# Altium schematic symbol library ECS-2520MV-250-BN-TR.SchLib: 1 symbol
Pins are listed as number, name and electrical type; pins without a type are passive.

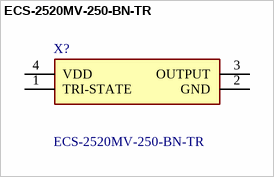
[diagram p0: symbol ECS-2520MV-250-BN-TR]

## ECS-2520MV-250-BN-TR
designator X?
Standard Clock Oscillators 25MHz 1.6-3.6V -40C +85C; Manufacturer_Name: ECS; Geometry.Height: 0.9mm; Manufacturer_Part_Number: ECS-2520MV-250-BN-TR; Mouser Part Number: 520-2520MV-250-BN-T; Mouser Price/Stock: https://www.mouser.co.uk/ProductDetail/ECS/ECS-2520MV-250-BN-TR?qs=fAHHVMwC%252BbgOY%2Fh2f8CE5Q%3D%3D; Arrow Part Number: ECS-2520MV-250-BN-TR; Arrow Price/Stock: https://www.arrow.com/en/products/ecs-2520mv-250-bn-tr/ecs-international; Datasheet Link: https://www.ecsxtal.com/store/pdf/ECS-2520MV.pdf
footprint ECS2520MV250BNTR
pins: 1 TRI-STATE, 2 GND, 3 OUTPUT, 4 VDD